# Altium schematic symbol library MyLibrary.SchLib: 320 symbols (part 2 of 7)
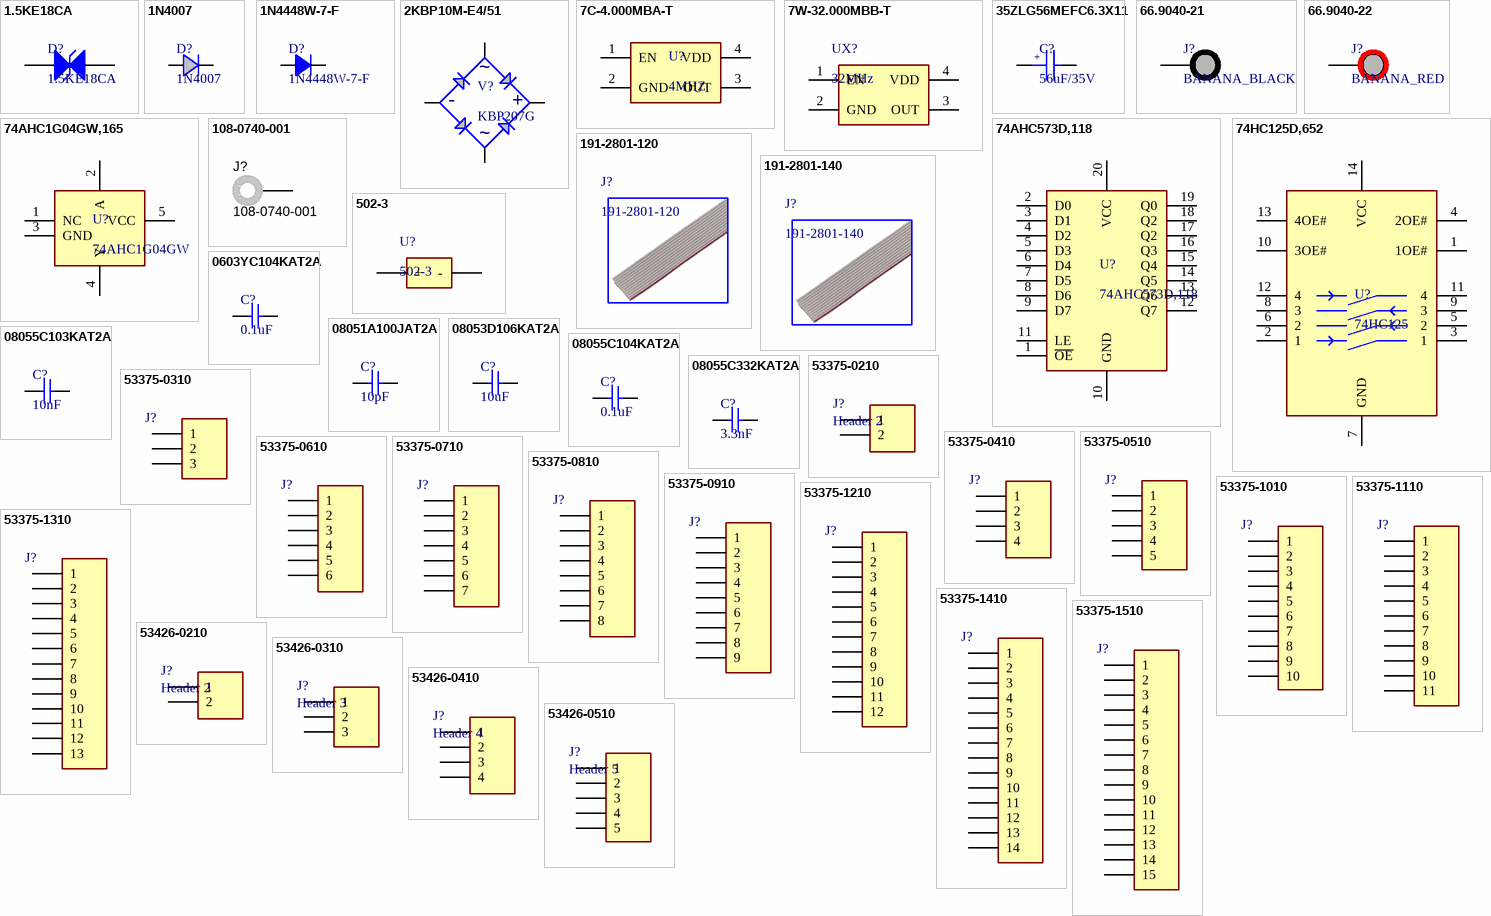
[diagram p9: symbols 1.5KE18CA to 53426-0510]

## 53426-0410
designator J?, comment Header 4
CONN HEADER RIGHT ANGLE 4POS 2.5MM; Manufacturer: Molex; Manufacturer Part Number: 53426-0410; Contact Resistance: 20mR; Number of Positions: 4; Voltage Rating: 250V; Current Rating: 3A; Glow Wire Compliant: Non-compliant; Connector Type: Male Pin; Supplier 1: Digi-Key; Supplier Part Number 1: WM3424-ND; Stock: 11360; Pricing: 1=0.43, 10=0.407, 100=0.3121, 500=0.2714, 1000=0.2239, 5000=0.1968, 10000=0.1832 (USD); Mount: Through Hole; Contact Plating: Tin; Contact Material: Bronze; Color: White; Housing Material: Polyester; Min Operating Temperature: -40°C; Max Operating Temperature: 105°C; Number of Rows: 1; Termination: Through Hole; Packaging: Tray; Orientation: Right Angle; Contact Gender: Male; Package Quantity: 1000; Number of Circuits: 4; Pitch: 2.5mm; ComponentLink1URL: http://www.molex.com/webdocs/datasheets/pdf/en-us/0534260410_PCB_HEADERS.pdf; ComponentLink1Description: Datasheet; Depth: 11.5mm; Fastening Type: Ramp; Housing Color: White; Lead Pitch: 2.5mm; Length: 12.4mm; Max Voltage Rating (AC): 250V; Type: THT
footprint 53426-0410
pins: 1, 2, 3, 4

## 53426-0510
designator J?, comment Header 5
CONN HEADER RIGHT ANGLE 5POS 2.5MM; Manufacturer: Molex; Manufacturer Part Number: 0534260510; Contact Resistance: 20mR; Number of Positions: 5; Connector Type: Male Pin; Current Rating: 3A; Glow Wire Compliant: Non-compliant; Max Voltage Rating (AC): 250V; Supplier 1: Digi-Key; Supplier Part Number 1: WM10107-ND; Stock: 8679; Pricing: 1=0.74, 10=0.693, 100=0.5314, 750=0.4159, 1500=0.3697, 5250=0.335, 10500=0.3119 (USD); Mount: Through Hole; Contact Plating: Tin; Contact Material: Bronze; Housing Material: Polybutylene; Color: White; Housing Color: White; Min Operating Temperature: -40°C; Max Operating Temperature: 105°C; Number of Rows: 1; Termination: Solder; Orientation: Right Angle; Packaging: Tray; Fastening Type: Ramp; Package Quantity: 750; Length: 14.9mm; Pitch: 2.5mm; Depth: 11.5mm; ComponentLink1URL: http://www.molex.com/webdocs/datasheets/pdf/en-us/0534260510_PCB_HEADERS.pdf; ComponentLink1Description: Datasheet; Contact Gender: Male; Lead Pitch: 2.5mm; Number of Circuits: 5; Voltage Rating: 250V; Type: THT
pins: 1, 2, 3, 4, 5

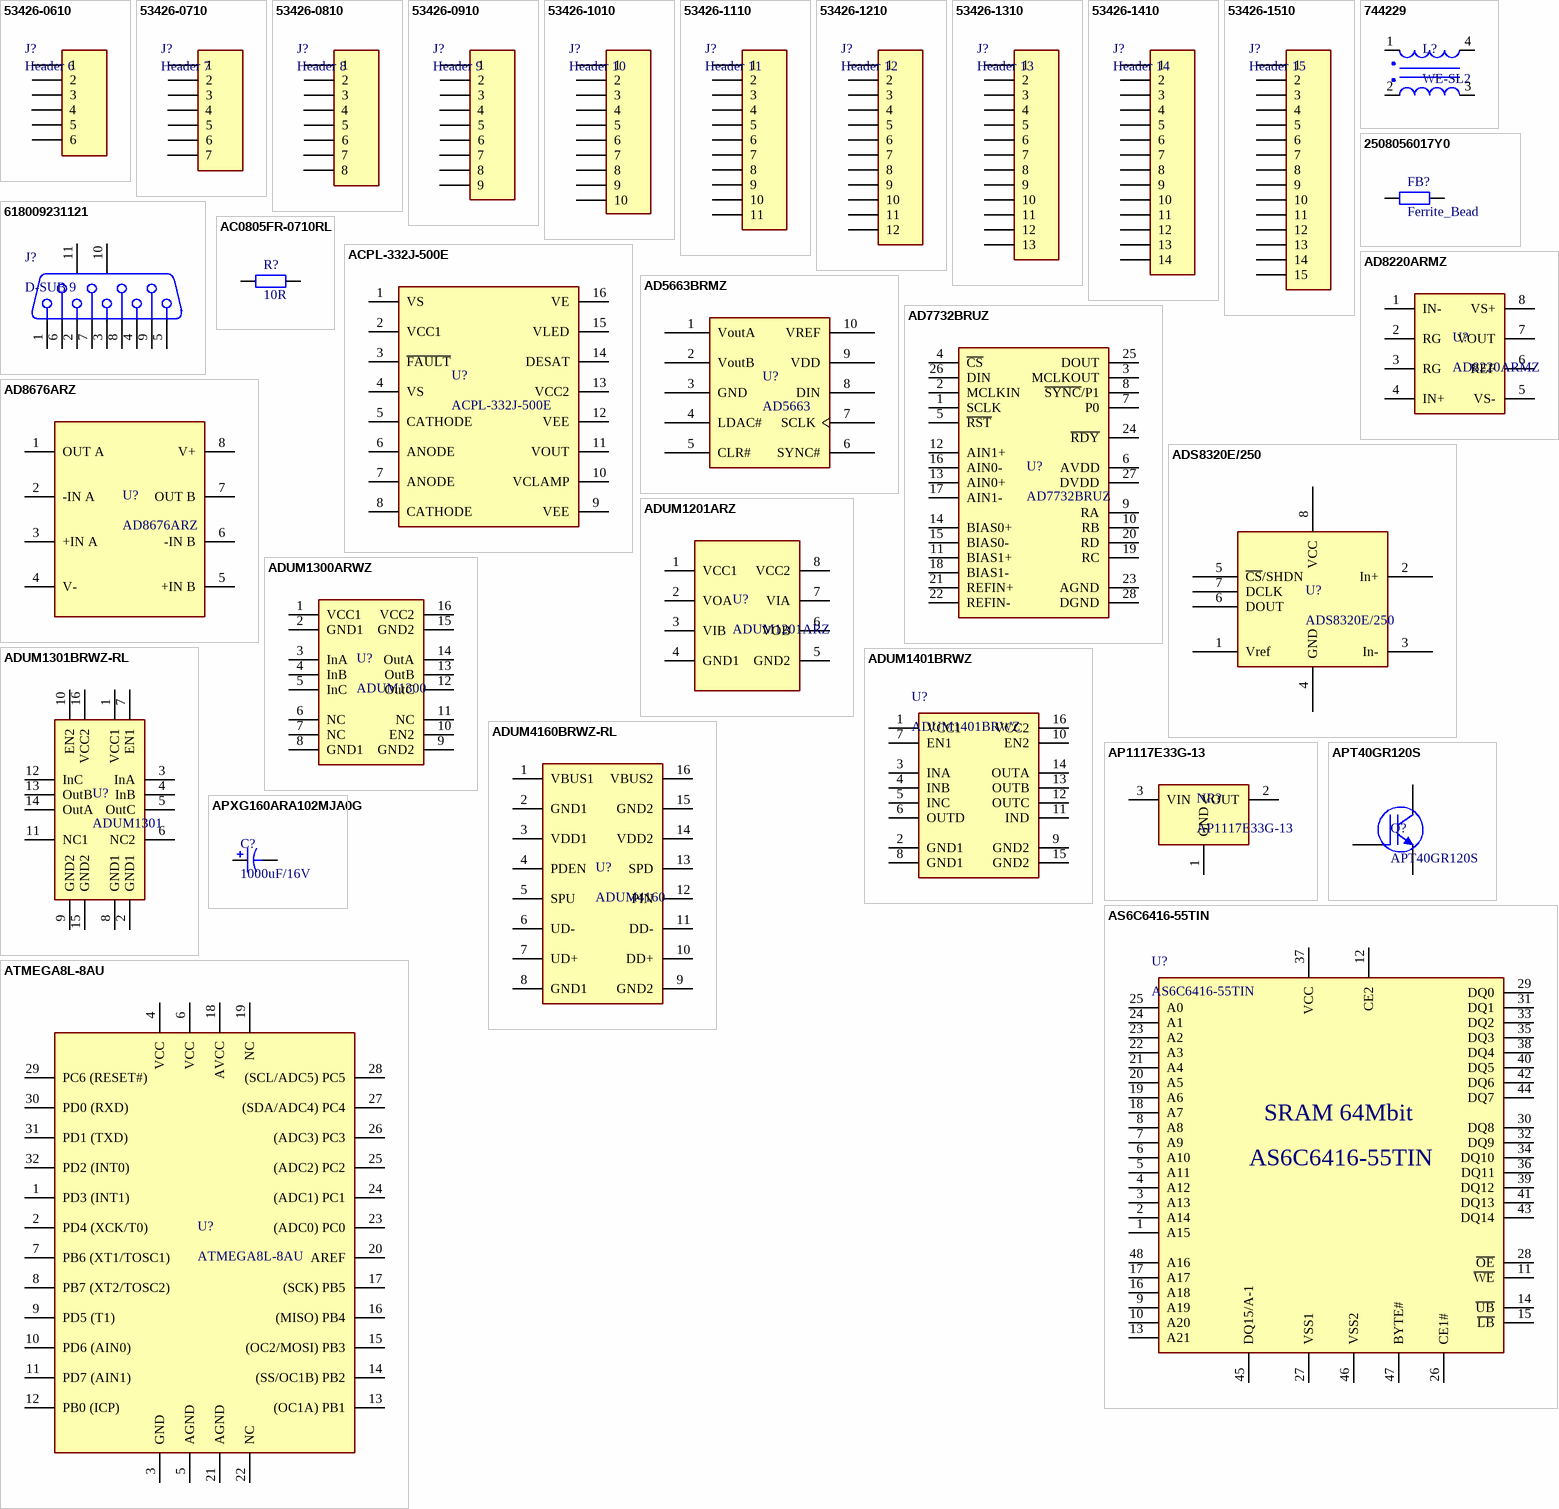
[diagram p1: symbols 53426-0610 to ATMEGA8L-8AU]

## 53426-0610
designator J?, comment Header 6
CONN HEADER RIGHT ANGLE 6POS 2.5MM; Manufacturer: Molex; Manufacturer Part Number: 53426-0610; Contact Resistance: 20mR; Number of Positions: 6; Voltage Rating: 250V; Current Rating: 3A; Glow Wire Compliant: Non-compliant; Connector Type: Male Pin; Supplier 1: Digi-Key; Supplier Part Number 1: WM3425-ND; Stock: 8959; Pricing: 1=0.73, 10=0.645, 100=0.5561, 750=0.4424, 1500=0.3792, 5250=0.3539, 10500=0.3362 (USD); Mount: Through Hole; Contact Material: Bronze; Contact Plating: Tin; Color: White; Housing Material: Polyester; Min Operating Temperature: -40°C; Max Operating Temperature: 105°C; Number of Rows: 1; Packaging: Tray; Termination: Through Hole; Orientation: Right Angle; Contact Gender: Male; Package Quantity: 750; Number of Circuits: 6; Pitch: 2.5mm; ComponentLink1URL: http://www.onlinecomponents.com/productFiles/mf-MOL/0534260610_pcb_headers.pdf; ComponentLink1Description: Datasheet; Depth: 11.5mm; Fastening Type: Ramp; Housing Color: White; Lead Pitch: 2.5mm; Length: 17.4mm; Max Voltage Rating (AC): 250V; Type: THT
footprint 53426-0610
pins: 1, 2, 3, 4, 5, 6

## 53426-0710
designator J?, comment Header 7
CONN HEADER RIGHT ANGLE 7POS 2.5MM; Manufacturer: Molex; Manufacturer Part Number: 53426-0710; Contact Resistance: 20mR; Current Rating: 3A; Number of Positions: 7; Voltage Rating: 250V; Glow Wire Compliant: Non-compliant; Connector Type: Male Pin; Supplier 1: Digi-Key; Supplier Part Number 1: WM14653-ND; Stock: 6996; Pricing: 1=0.56, 10=0.526, 100=0.4032, 500=0.3506, 1000=0.2893, 5000=0.2542, 10000=0.2367 (USD); Mount: Through Hole; Contact Plating: Tin; Contact Material: Bronze; Color: White; Housing Material: Polyester; Min Operating Temperature: -40°C; Max Operating Temperature: 105°C; Number of Rows: 1; Orientation: Right Angle; Package Quantity: 500; Packaging: Tray; Termination: Through Hole; Number of Circuits: 7; Pitch: 2.5mm; ComponentLink1URL: http://www.onlinecomponents.com/productFiles/mf-MOL/314410534260710_pcb_headers.pdf; ComponentLink1Description: Datasheet; Contact Gender: Male; Depth: 11.5mm; Fastening Type: Ramp; Housing Color: White; Lead Pitch: 2.5mm; Length: 19.9mm; Max Voltage Rating (AC): 250V; Type: THT
pins: 1, 2, 3, 4, 5, 6, 7

## 53426-0810
designator J?, comment Header 8
CONN HEADER RIGHT ANGLE 8POS 2.5MM; Manufacturer: Molex; Manufacturer Part Number: 53426-0810; Contact Resistance: 20mR; Number of Positions: 8; Current Rating: 3A; Voltage Rating: 250V; Glow Wire Compliant: Non-compliant; Connector Type: Male Pin; Supplier 1: Digi-Key; Supplier Part Number 1: WM10109-ND; Stock: 4658; Pricing: 1=0.67, 10=0.626, 100=0.4798, 500=0.4172, 1000=0.3442, 5000=0.3025, 10000=0.2816 (USD); Mount: Through Hole; Contact Plating: Tin; Contact Material: Bronze; Color: White; Housing Material: Polyester; Min Operating Temperature: -40°C; Max Operating Temperature: 105°C; Number of Rows: 1; Termination: Through Hole; Packaging: Tray; Orientation: Right Angle; Contact Gender: Male; Number of Circuits: 8; Pitch: 2.5mm; ComponentLink1URL: http://www.mouser.com/ds/2/276/0534260810_PCB_HEADERS-171072.pdf; ComponentLink1Description: Datasheet; Depth: 11.5mm; Fastening Type: Ramp; Housing Color: White; Lead Pitch: 2.5mm; Length: 22.4mm; Max Voltage Rating (AC): 250V; Type: THT
footprint 53426-0810
pins: 1, 2, 3, 4, 5, 6, 7, 8

## 53426-0910
designator J?, comment Header 9
CONN HEADER RIGHT ANGLE 9POS 2.5MM; Manufacturer: Molex; Manufacturer Part Number: 0534260910; Contact Resistance: 20mR; Number of Positions: 9; Connector Type: Male Pin; Current Rating: 3A; Glow Wire Compliant: Non-compliant; Max Voltage Rating (AC): 250V; Supplier 1: Digi-Key; Supplier Part Number 1: WM14654-ND; Stock: 3738; Pricing: 1=0.95, 10=0.831, 100=0.7173, 500=0.5869, 1000=0.5217, 5000=0.4565, 10000=0.4337 (USD); Mount: Through Hole; Contact Plating: Tin; Color: White; Contact Material: Bronze; Housing Material: Polybutylene; Housing Color: White; Min Operating Temperature: -40°C; Max Operating Temperature: 105°C; Number of Rows: 1; Package Quantity: 500; Packaging: Tray; Termination: Solder; Orientation: Right Angle; Fastening Type: Ramp; Length: 24.9mm; Pitch: 2.5mm; Depth: 11.5mm; ComponentLink1URL: http://www.molex.com/webdocs/datasheets/pdf/en-us/0534260910_PCB_HEADERS.pdf; ComponentLink1Description: Datasheet; Contact Gender: Male; Lead Pitch: 2.5mm; Number of Circuits: 9; Voltage Rating: 250V; Type: THT
pins: 1, 2, 3, 4, 5, 6, 7, 8, 9

## 53426-1010
designator J?, comment Header 10
CONN HEADER RIGHT ANGLE 10POS 2.5MM; Manufacturer: Molex; Manufacturer Part Number: 53426-1010; Contact Resistance: 20mR; Number of Positions: 10; Current Rating: 3A; Voltage Rating: 250V; Glow Wire Compliant: Non-compliant; Connector Type: Male Pin; Supplier 1: Digi-Key; Supplier Part Number 1: WM20351-ND; Stock: 3317; Pricing: 1=0.75, 10=0.657, 450=0.5154, 900=0.451, 1350=0.4123, 5400=0.3608, 10350=0.3427 (USD); Mount: Through Hole; Contact Plating: Tin; Contact Material: Bronze; Color: White; Housing Material: Polyester; Min Operating Temperature: -40°C; Max Operating Temperature: 105°C; Number of Rows: 1; Termination: Through Hole; Packaging: Tray; Orientation: Right Angle; Package Quantity: 450; Number of Circuits: 10; Pitch: 2.5mm; ComponentLink1URL: http://www.molex.com/webdocs/datasheets/pdf/en-us/0534261010_PCB_HEADERS.pdf; ComponentLink1Description: Datasheet; Contact Gender: Male; Depth: 11.5mm; Fastening Type: Ramp; Housing Color: White; Lead Pitch: 2.5mm; Length: 27.4mm; Max Voltage Rating (AC): 250V; Type: THT
footprint 53426-1010
pins: 1, 2, 3, 4, 5, 6, 7, 8, 9, 10

## 53426-1110
designator J?, comment Header 11
CONN HEADER RIGHT ANGLE 11POS 2.5MM; Manufacturer: Molex; Manufacturer Part Number: 0534261110; Contact Resistance: 20mR; Number of Positions: 11; Connector Type: Male Pin; Current Rating: 3A; Glow Wire Compliant: Non-compliant; Max Voltage Rating (AC): 250V; Supplier 1: Digi-Key; Supplier Part Number 1: 0534261110-ND; Stock: 0; Mount: Through Hole; Contact Plating: Tin; Contact Material: Bronze; Housing Material: Polybutylene; Color: White; Housing Color: White; Min Operating Temperature: -40°C; Max Operating Temperature: 105°C; Orientation: Right Angle; Number of Rows: 1; Packaging: Tray; Termination: Solder; Fastening Type: Ramp; Length: 29.9mm; Pitch: 2.5mm; Depth: 11.5mm; ComponentLink1URL: http://www.molex.com/webdocs/datasheets/pdf/en-us/0534261110_PCB_HEADERS.pdf; ComponentLink1Description: Datasheet; Contact Gender: Male; Lead Pitch: 2.5mm; Number of Circuits: 11; Voltage Rating: 250V; Type: THT
pins: 1, 2, 3, 4, 5, 6, 7, 8, 9, 10, 11

## 53426-1210
designator J?, comment Header 12
CONN HEADER RIGHT ANGLE 12POS 2.5MM; Manufacturer: Molex; Manufacturer Part Number: 0534261210; Contact Resistance: 20mR; Number of Positions: 12; Connector Type: Male Pin; Current Rating: 3A; Glow Wire Compliant: Non-compliant; Max Voltage Rating (AC): 250V; Supplier 1: Digi-Key; Supplier Part Number 1: WM14655-ND; Stock: 0; Mount: Through Hole; Contact Plating: Tin; Contact Material: Bronze; Housing Material: Polybutylene; Color: White; Housing Color: White; Min Operating Temperature: -40°C; Max Operating Temperature: 105°C; Number of Rows: 1; Termination: Solder; Packaging: Tray; Package Quantity: 400; Orientation: Right Angle; Fastening Type: Ramp; Length: 32.4mm; Pitch: 2.5mm; Depth: 11.5mm; ComponentLink1URL: http://www.molex.com/webdocs/datasheets/pdf/en-us/0534261210_PCB_HEADERS.pdf; ComponentLink1Description: Datasheet; Contact Gender: Male; Lead Pitch: 2.5mm; Number of Circuits: 12; Voltage Rating: 250V; Type: THT
pins: 1, 2, 3, 4, 5, 6, 7, 8, 9, 10, 11, 12

## 53426-1310
designator J?, comment Header 13
CONN HEADER RIGHT ANGLE 13POS 2.5MM; Manufacturer: Molex; Manufacturer Part Number: 0534261310; Contact Resistance: 20mR; Number of Positions: 13; Connector Type: Male Pin; Current Rating: 3A; Glow Wire Compliant: Non-compliant; Max Voltage Rating (AC): 250V; Supplier 1: Digi-Key; Supplier Part Number 1: 0534261310-ND; Stock: 0; Mount: Through Hole; Contact Plating: Tin; Contact Material: Bronze; Housing Material: Polybutylene; Color: White; Housing Color: White; Min Operating Temperature: -40°C; Max Operating Temperature: 105°C; Number of Rows: 1; Orientation: Right Angle; Packaging: Tray; Termination: Solder; Fastening Type: Ramp; Length: 34.9mm; Pitch: 2.5mm; Depth: 11.5mm; ComponentLink1URL: http://www.molex.com/webdocs/datasheets/pdf/en-us/0534261310_PCB_HEADERS.pdf; ComponentLink1Description: Datasheet; Contact Gender: Male; Lead Pitch: 2.5mm; Number of Circuits: 13; Voltage Rating: 250V; Type: THT
pins: 1, 2, 3, 4, 5, 6, 7, 8, 9, 10, 11, 12, 13

## 53426-1410
designator J?, comment Header 14
CONN HEADER RIGHT ANGLE 14POS 2.5MM; Manufacturer: Molex; Manufacturer Part Number: 0534261410; Contact Resistance: 20mR; Number of Positions: 14; Connector Type: Male Pin; Current Rating: 3A; Glow Wire Compliant: Non-compliant; Max Voltage Rating (AC): 250V; Supplier 1: Digi-Key; Supplier Part Number 1: WM14656-ND; Stock: 0; Mount: Through Hole; Contact Plating: Tin; Contact Material: Bronze; Housing Material: Polybutylene; Color: White; Housing Color: White; Min Operating Temperature: -40°C; Max Operating Temperature: 105°C; Number of Rows: 1; Termination: Solder; Packaging: Tray; Package Quantity: 350; Orientation: Right Angle; Fastening Type: Ramp; Length: 37.4mm; Pitch: 2.5mm; Depth: 11.5mm; ComponentLink1URL: http://www.molex.com/pdm_docs/sd/534261410_sd.pdf; ComponentLink1Description: Datasheet; Contact Gender: Male; Lead Pitch: 2.5mm; Number of Circuits: 14; Voltage Rating: 250V; Type: THT
pins: 1, 2, 3, 4, 5, 6, 7, 8, 9, 10, 11, 12, 13, 14

## 53426-1510
designator J?, comment Header 15
CONN HEADER RIGHT ANGLE 15POS 2.5MM; Manufacturer: Molex; Manufacturer Part Number: 0534261510; Contact Resistance: 20mR; Number of Positions: 15; Connector Type: Male Pin; Current Rating: 3A; Glow Wire Compliant: Non-compliant; Max Voltage Rating (AC): 250V; Supplier 1: Digi-Key; Supplier Part Number 1: 0534261510-ND; Stock: 0; Mount: Through Hole; Contact Plating: Tin; Contact Material: Bronze; Housing Material: Polybutylene; Color: White; Housing Color: White; Min Operating Temperature: -40°C; Max Operating Temperature: 105°C; Packaging: Tray; Number of Rows: 1; Termination: Solder; Orientation: Right Angle; Fastening Type: Ramp; Length: 39.9mm; Pitch: 2.5mm; Depth: 11.5mm; ComponentLink1URL: http://www.molex.com/pdm_docs/sd/534261510_sd.pdf; ComponentLink1Description: Datasheet; Contact Gender: Male; Lead Pitch: 2.5mm; Number of Circuits: 15; Voltage Rating: 250V; Type: THT
pins: 1, 2, 3, 4, 5, 6, 7, 8, 9, 10, 11, 12, 13, 14, 15

## 744229
designator L?, comment WE-SL2
COMMON MODE CHOKE DUAL 6.5mH 18.4kOhm 10kHz 400mA 950mOhm DCR SMD T/R; Manufacturer: Wurth Electronics; Manufacturer Part Number: 744229; Core Material: Ferrite; Resistance: 950mR; Test Frequency: 1kHz; Inductance Tolerance: 50%; Voltage Rating (DC): 80V; Impedance: 18.4kR; Max Current Rating: 700mA; Number of Lines: 2; Supplier 1: Mouser; Stock 1: 2850; Pricing 1: 1=2.46000, 10=2.43000, 25=2.43000, 50=2.19000, 100=2.11000, 250=2.11000, 500=1.96000, 1000=1.80000, 2000=1.51000 (USD); RoHS: Yes; Mount: Surface Mount; Number of Pins: 4; Weight: 0.017672oz; Min Operating Temperature: -40°C; Max Operating Temperature: 125°C; Current: 400mA; DC Resistance (DCR): 950mR; Current Rating: 400mA; Max DC Current: 400mA; Termination: SMD/SMT; Voltage Rating: 80V; Inductance: 6.5mH; Tolerance: 50%; Package Quantity: 1; Packaging: Tape and Reel; Length: 9.2mm; Height: 5mm; Width: 6mm; Depth: 6mm; REACH SVHC: No SVHC; Lead Free: Lead Free; ComponentLink1URL: https://datasheet.ciiva.com/7691/1735594-7691573.pdf?src-supplier=Element14; ComponentLink1Description: Datasheet; Supplier Part Number 1: 710-744229; Type: SMD; Package: *
footprint LINE_FILTER_WE-SL2
pins: 1, 2, 3, 4

## 2508056017Y0
designator FB?, comment Ferrite_Bead
FERRITE 300mA 0805 0.35R; Manufacturer: FAIR-RITE; Manufacturer Part Number: 2508056017Y0; Type: SMD; .PCBChecked: BP; Supplier 1: Farnell; RoHS: YES; Stock 1: 44162; Pricing 1: 10=0.0967, 100=0.028, 500=0.02, 1000=0.0171, 2000=0.015, 4000=0.0133, 20000=0.01, 40000=0.0098 (GBP); ComponentLink1URL: http://www.farnell.com/datasheets/2020787.pdf; ComponentLink1Description: Datasheet; Supplier Part Number 1: 1651722; Category: Ferrites; Package: FBC2012X110N; .SCHChecked: BP; DCR: 0.35R
footprint FB0805
pins: 1, 2

## 618009231121
designator J?, comment D-SUB 9
D-Sub 9 FEMALE; Manufacturer: Wurth Electronics; Manufacturer Part Number: 618009231121; Current Rating: 3A; Voltage Rating: 125V; Number of Contacts: 9; Pitch: 2.84mm; Supplier 1: Mouser; Stock 1: 130; Pricing 1: 1=2.68, 10=2.54, 50=2.54, 100=2.25, 1000=1.5, 10000=1.5 (USD); Mount: Through Hole; Contact Material: Copper Alloy; Contact Plating: Gold; Housing Material: Steel; Min Operating Temperature: -40°C; Max Operating Temperature: 85°C; Number of Rows: 2; Gender: Female; Termination: SMD/SMT; Orientation: Right Angle; Length: 30.8mm; Width: 12.5mm; Depth: 18.5mm; REACH SVHC: Unknown; ComponentLink1URL: https://datasheet.ciiva.com/12669/6180xx231121-12669218.pdf; ComponentLink1Description: Datasheet; Supplier Part Number 1: 710-618009231121; Package: D-SUB 9; Type: THT
footprint DSUB1.385-2H9 (Connector; D Subminiature; 9 Position; Right Angle; Pitch 1.385 mm)
pins: 1, 2, 3, 4, 5, 6, 7, 8, 9, 10 MH1, 11 MH2

## AC0805FR-0710RL
designator R?, comment 10R
RES 10R 0805 0.125W; Manufacturer: Yageo; Manufacturer Part Number: AC0805FR-0710RL; Power Rating(s): 1/8W; Resistance: 10Ohm; Tolerance (+ or -): 1%; Temperature Coefficient: ±200; Case Style: Molded; Product Length (mm): 2mm; Product Depth (mm): 1.25mm; Product Height (mm): 0.5mm; Supplier 1: Avnet Abacus; Stock 1: 40093; Pricing 1: 1=0.1, 10=0.043, 100=0.0175, 1000=0.0079, 2500=0.0068 (USD); Type: SMD; Package: RESC2012X60N; Packaging: Tape and Reel; Operating Temp Range: -55C to 155C; Military Standard: Not Required; Failure Rate: Not Required; Construction: Rectangular; Termination Style: Not Required; ComponentLink1URL: http://www.mouser.com/ds/2/447/yageodocoutput-1111992.pdf; ComponentLink1Description: Datasheet; Supplier Part Number 1: AC0805FR-0710RL
footprint R0805
footprint RESC2012X05N (Chip Resistor, 2-Leads, Body 2.05x1.25mm, IPC Medium Density)
pins: 1, 2

## ACPL-332J-500E
designator U?
OPTOCOUPLER 1.2V SOIC16 2.5A; Manufacturer: Broadcom Avago; Brand: Avago Technologies; Isolation Voltage: 3750 Vrms; Maximum Forward Diode Voltage: 1.95 V; Maximum Reverse Diode Voltage: 5 V; Maximum Power Dissipation: 600 mW; Fall Time: 50 ns; Number of Channels per Chip: 2 Channels; Supplier 1: Mouser; Manufacturer Part Number: ACPL-332J-500E; Stock 1: 1167; Pricing 1: 1=6.22, 10=4.67, 50=4.67, 100=3.89, 1000=2.96, 10000=2.84 (USD); Product Category: Logic Output Optocouplers; RoHS: Details; Maximum Operating Temperature: + 105 C; Minimum Operating Temperature: - 40 C; Package: SOIC127P1032X265-16N; Packaging: Reel; Minimum Forward Diode Voltage: 1.2 V; Rise Time: 50 ns; Factory Pack Quantity: 850; ComponentLink1URL: https://datasheet.ciiva.com/4701/av02-0120en-190102-4701161.pdf; ComponentLink1Description: Datasheet; Supplier Part Number 1: 630-ACPL-332J-500E; Type: SMD
footprint SOIC16W (SOIC, 16-Leads, Body 10,30x7,50mm, Pitch 1,27mm, IPC Medium Density)
pins: 1 VS, 2 VCC1, 3 ~{FAULT}, 4 VS, 5 CATHODE, 6 ANODE, 7 ANODE, 8 CATHODE, 9 VEE, 10 VCLAMP, 11 VOUT, 12 VEE, 13 VCC2, 14 DESAT, 15 VLED, 16 VE

## AD5663BRMZ
designator U?, comment AD5663
DAC 16BIT MSOP10; Manufacturer: Analog Devices; Manufacturer Part Number: AD5663BRMZ; No. of Pins: 10; Input Channel Type: Serial; Data Interface: 3 Wire, Serial; Sampling Rate: 200kSPS; Supply Voltage Range: 2.7V to 5.5V; SVHC: No SVHC (16-Jun-2014); Supplier 1: Farnell; Stock 1: 21; Pricing 1: 1=8.42, 10=6.76, 25=6.32, 50=5.89, 100=5.57, 250=5.2, 500=4.69, 1000=4.17 (EUR); Resolution (Bits): 16bit; Package: SOP50P500X110-10N; Operating Temperature Min: -40°C; Operating Temperature Max: 105°C; Packaging: Each; MSL: MSL 1 - Unlimited; ComponentLink1URL: https://datasheet.ciiva.com/4034/42741164s9191829n2771-4034583.pdf; ComponentLink1Description: Datasheet; Supplier Part Number 1: 1274263; Type: SMD
footprint MSOP10 (TSSOP, 10-Leads, Body 3.00x3.00mm, Pitch 0.50mm, IPC Medium Density)
pins: 1 VoutA, 2 VoutB, 3 GND, 4 LDAC#, 5 CLR#, 6 SYNC#, 7 SCLK, 8 DIN, 9 VDD, 10 VREF

## AD7732BRUZ
designator U?
AD 24 bit 15.4 kSPS TSSOP28; Manufacturer: Analog Devices; Sampling Rate: 3.05MS/s; Number of A/D Converters: 1; Resolution: 24b; Polarity: Bipolar,Unipolar; Number of Analog Inputs: 2; Number of Bits: 24; Interface: SPI; Operating Supply Voltage: 5V; Power Dissipation: 100mW; Supply Type: Analog,Digital; Max Supply Voltage: 5.25V; Min Supply Voltage: 4.75V; Power Consumption: 85mW; Max Input Voltage: 2.525V; Min Input Voltage: 2.475V; Supplier 1: Mouser; Manufacturer Part Number: AD7732BRUZ; Stock 1: 283; Pricing 1: 1=19.04000, 10=17.28000, 25=16.24000, 50=15.64000, 100=14.06000, 250=12.99000, 500=12.21000, 1000=11.11000 (USD); RoHS: Yes; Case/Package: TSSOP; Number of Pins: 28; Contact Plating: Tin,Matte; Min Operating Temperature: -40°C; Max Operating Temperature: 105°C; Packaging: Rail/Tube; Package Quantity: 50; Number of Inputs: 2; Number of Converters: 1; Number of Elements: 1; Number of Channels: 2; Max Power Dissipation: 100mW; Length: 9.7mm; Height: 1.05mm; Width: 4.4mm; Radiation Hardening: No; Lead Free: Contains Lead; REACH SVHC: No SVHC; ComponentLink1URL: https://datasheet.ciiva.com/1152/ad7732-1152529.pdf?src-supplier=Newark; ComponentLink1Description: Datasheet; Supplier Part Number 1: 584-AD7732BRUZ; Type: SMD; Package: SOP65P640X120-28N
footprint TSSOP28 (TSOP, 28-Leads, Body 9.70x4.40mm, Pitch 0.65mm, IPC Medium Density)
pins: 1 SCLK, 2 MCLKIN, 3 MCLKOUT, 4 ~{CS}, 5 ~{RST}, 6 AVDD, 7 P0, 8 ~{SYNC}/P1, 9 RA, 10 RB, 11 BIAS1+, 12 AIN1+, 13 AIN0+, 14 BIAS0+, 15 BIAS0-, 16 AIN0-, 17 AIN1-, 18 BIAS1-, 19 RC, 20 RD, 21 REFIN+, 22 REFIN-, 23 AGND, 24 ~{RDY}, 25 DOUT, 26 DIN, 27 DVDD, 28 DGND

## AD8220ARMZ
designator U?
AMPLIFIER INSTRUMENTATION MSOP8; Manufacturer: Analog Devices; Input Bias Current: 25pA; Input Offset Voltage (Vos): 125uV; Voltage Gain: 60dB; Number of Circuits: 1; Operating Supply Current: 750uA; Output Current per Channel: 15mA; Common Mode Rejection Ratio: 100dB; Gain Bandwidth Product: 1.5MHz; Min Supply Voltage: 4.5V; Max Supply Voltage: 36V; Operating Supply Voltage: 28V; Min Dual Supply Voltage: 2.25V; Max Dual Supply Voltage: 18V; Dual Supply Voltage: 9V; Slew Rate: 2V/µs; Supplier 1: Digi-Key; Manufacturer Part Number: AD8220ARMZ; Stock 1: 787; Pricing 1: 1=6.43000, 10=5.80500, 25=5.53520, 100=4.59000, 250=4.18500, 500=3.91500, 1000=3.51000 (USD); RoHS: Yes; Case/Package: MSOP; Number of Pins: 8; Contact Plating: Tin,Matte; Min Operating Temperature: -40°C; Max Operating Temperature: 85°C; Packaging: Rail/Tube; Number of Elements: 1; Number of Amplifiers: 1; Bandwidth: 1.5MHz; Package Quantity: 50; Number of Channels: 1; -3db Bandwidth: 1.5MHz; Length: 3mm; Height: 0.85mm; Width: 3mm; Radiation Hardening: No; Lead Free: Contains Lead; REACH SVHC: No SVHC; ComponentLink1URL: https://datasheet.ciiva.com/1135/716986-1135107.pdf?src-supplier=Element14; ComponentLink1Description: Datasheet; Supplier Part Number 1: AD8220ARMZ-ND; Type: SMD; Package: SOP65P510X110-8N
footprint MSOP8
pins: 1 IN-, 2 RG, 3 RG, 4 IN+, 5 VS-, 6 REF, 7 VOUT, 8 VS+

## AD8676ARZ
designator U?
OP AMP SOIC8; Manufacturer: Analog Devices; Bandwidth: 10MHz; Max Supply Voltage: 18V; Min Supply Voltage: 5V; Voltage Gain: 126dB; Common Mode Rejection Ratio: 130dB; Max Dual Supply Voltage: 15V; Dual Supply Voltage: 9V; Slew Rate: 2.5V/µs; Number of Channels: 2; Output Current per Channel: 20mA; Input Bias Current: 2.4nA; Input Offset Voltage (Vos): 50uV; Input Voltage Noise Density: 2.8nV/sqrt Hz; Power Supply Rejection Ratio (PSRR): 120dB; Operating Supply Current: 5.4mA; Quiescent Current: 2.7mA; Supplier 1: RS Components; Manufacturer Part Number: AD8676ARZ; Stock 1: 98; Pricing 1: 98=2.797, 490=2.517, 980=2.294 (EUR); Package: SOIC127P600X175-8N; Number of Pins: 8; Contact Plating: Tin,Matte; Min Operating Temperature: -40°C; Max Operating Temperature: 125°C; Packaging: Rail/Tube; Unity Gain Bandwidth Product: 10MHz; Package Quantity: 98; Min Dual Supply Voltage: 5V; Number of Circuits: 2; Gain Bandwidth Product: 10MHz; Number of Amplifiers: 2; Number of Elements: 2; Length: 5mm; Height: 1.5mm; Width: 4mm; REACH SVHC: No SVHC; Lead Free: Contains Lead; ComponentLink1URL: https://datasheet.ciiva.com/26849/ad8676arz-26849632.pdf; ComponentLink1Description: Datasheet; Supplier Part Number 1: 9128019; Type: SMD
footprint SOIC8 (SOIC, 8-Leads, Body 4,90x3,90mm, Pitch 1,27mm, IPC Medium Density)
pins: 1 OUT A, 2 -IN A, 3 +IN A, 4 V-, 5 +IN B, 6 -IN B, 7 OUT B, 8 V+

## ADS8320E/250
designator U?
AD 16BIT MSOP8 SPI; Manufacturer: Texas Instruments; Number of Channels: 1; Max Supply Voltage: 5.25V; Min Supply Voltage: 2V; Max Power Dissipation: 8.5mW; Interface: SPI,Serial; Number of Bits: 16; Sampling Rate: 100KS/s; Resolution: 16b; Polarity: Unipolar; Signal to Noise Ratio (SNR): 90dB; Power Dissipation: 4.5mW; Differential Nonlinearity: 2LSB; Min Supply Voltage (DC): 2.7V; Integral Nonlinearity (INL): 8LSB; Spurious-free dynamic range (SFDR): 84dB; Nominal Supply Current: 900uA; Power Consumption: 18mW; Supply Type: Single; Supplier 1: EBV Elektronik; Manufacturer Part Number: ADS8320E/250; Stock 1: 392; Pricing 1: 1=12.59, 10=11.574, 100=9.7746 (USD); Package: SOP65P510X110-8N; Number of Pins: 8; Contact Plating: Gold; Min Operating Temperature: -40°C; Max Operating Temperature: 85°C; Packaging: Tape and Reel; Package Quantity: 250; Number of Inputs: 1; Number of A/D Converters: 1; Number of Converters: 1; Number of Analog Inputs: 1; Number of Elements: 1; Conversion Rate: 100KS/s; Max Supply Voltage (DC): 5.25V; Termination: SMD/SMT; Length: 3.1mm; Height: 0.95mm; Width: 3.1mm; Radiation Hardening: No; REACH SVHC: No SVHC; Lead Free: Lead Free; ComponentLink1URL: https://datasheet.ciiva.com/22696/1789154-22696423.pdf; ComponentLink1Description: Datasheet; Supplier Part Number 1: ADS8320E/250; Type: SMD
footprint MSOP8
pins: 1 Vref, 2 In+, 3 In-, 4 GND, 5 ~{CS}/SHDN, 6 DOUT, 7 DCLK, 8 VCC

## ADUM1201ARZ
designator U?
ISOLATOR 2.5kV SOIC8; Manufacturer: Analog Devices; Max Supply Voltage: 5.5V; Min Supply Voltage: 2.7V; Propagation Delay: 150ns; Number of Channels: 2; Data Rate: 25Mbps; Channel Type: Unidirectional; Polarity: Bidirectional; Turn-On Delay Time: 45ns; Operating Supply Current: 600uA; Output Current: 35mA; Isolated Power: No; Pulse Width Distortion (PWD): 40ns; Operating Supply Voltage: 3V; Rise Time: 3ns; Max Input Current: 10uA; Supplier 1: RSComponents; Manufacturer Part Number: ADUM1201ARZ; RoHS: Yes; Stock 1: 1945; Case/Package: R; Number of Pins: 8; Weight: 0.019048oz; Number of Terminals: 8; Contact Plating: Matte,Tin; Min Operating Temperature: -40°C; Max Operating Temperature: 125°C; Packaging: Rail/Tube; Type: SMD; Isolation Voltage: 2.5kV; Length: 5mm; Width: 4mm; Depth: 1.5mm; Radiation Hardening: No; Lead Free: Contains Lead; REACH SVHC: No SVHC; ComponentLink2URL: http://www.farnell.com/datasheets/2149293.pdf; ComponentLink2Description: Datasheet; Supplier Part Number 1: 496-7519P; Package: SOIC127P600X175-8N
footprint SOIC8 (SOIC, 8-Leads, Body 4,90x3,90mm, Pitch 1,27mm, IPC Medium Density)
pins: 1 VCC1, 2 VOA, 3 VIB, 4 GND1, 5 GND2, 6 VOB, 7 VIA, 8 VCC2

## ADUM1300ARWZ
designator U?, comment ADUM1300
ISOLATOR 2.5kV SOIC16; Manufacturer: Analog Devices; Manufacturer Part Number: ADUM1300ARWZ; Number of Channels: 3; Propagation Delay: 100ns; Min Supply Voltage: 2.7V; Max Supply Voltage: 5.5V; Nominal Supply Current: 8.2mA; Rise Time: 3ns; Data Rate: 90Mbps; Channel Type: Unidirectional; Turn-On Delay Time: 32ns; Max Input Current: 10uA; Output Current: 30mA; Isolated Power: No; Pulse Width Distortion (PWD): 40ns; Operating Supply Voltage: 5V; Supplier 1: RSComponents; Stock 1: 0; Case/Package: SOIC; Number of Pins: 16; Min Operating Temperature: -40°C; Max Operating Temperature: 125°C; Package Quantity: 47; Packaging: Rail/Tube; Operating Supply Current: 8.2mA; Isolation Voltage: 2.5kV; Type: SMD; Length: 10.5mm; Width: 7.6mm; Depth: 2.35mm; Radiation Hardening: No; REACH SVHC: No SVHC; Lead Free: Contains Lead; ComponentLink1URL: https://datasheet.ciiva.com/15134/getdatasheetpartid-91279-15134182.pdf; ComponentLink1Description: Datasheet; Supplier Part Number 1: 1067026; Package: SOIC127P1032X265-16N
footprint SOIC16W (SOIC, 16-Leads, Body 10,30x7,50mm, Pitch 1,27mm, IPC Medium Density)
pins: 1 VCC1, 2 GND1, 3 InA, 4 InB, 5 InC, 6 NC, 7 NC, 8 GND1, 9 GND2, 10 EN2, 11 NC, 12 OutC, 13 OutB, 14 OutA, 15 GND2, 16 VCC2

## ADUM1301BRWZ-RL
designator U?, comment ADUM1301
ISOLATOR 2.5KV SOIC16; Manufacturer: Analog Devices Inc.; Manufacturer Part Number: ADUM1301BRWZ; Isolated Power: No; Number of Channels: 3; Inputs - Side 1/Side 2: 2/1; Channel Type: Unidirectional; Voltage - Isolation: 2500Vrms; Common Mode Transient Immunity (Min): 25kV/µs; Data Rate: 10Mbps; Propagation Delay tpLH / tpHL (Max): 50ns, 50ns; Pulse Width Distortion (Max): 3ns; Rise / Fall Time (Typ): 2.5ns, 2.5ns; Voltage - Supply: 2.7 V ~ 5.5 V; .PCBChecked: BP; RoHS: RoHS Compliant; Category: Isolators; Packaging: Cut Tape (CT); Part Status: Active; Technology: Magnetic Coupling; Type: SMD; Operating Temperature: -40°C ~ 105°C; Package: SOIC127P1032X265-16N; Supplier Device Package: 16-SOIC; ComponentLink1URL: http://www.analog.com/media/en/technical-documentation/data-sheets/ADuM1300_1301.pdf; ComponentLink1Description: Datasheet; .SCHChecked: BP; Supplier 1: RSComponents; Supplier Part Number 1: 759-1929P
footprint SOIC16W (SOIC, 16-Leads, Body 10,30x7,50mm, Pitch 1,27mm, IPC Medium Density)
pins: 1 VCC1, 2 GND1, 3 InA, 4 InB, 5 OutC, 6 NC2, 7 EN1, 8 GND1, 9 GND2, 10 EN2, 11 NC1, 12 InC, 13 OutB, 14 OutA, 15 GND2, 16 VCC2
1 alternate drawing of the same symbol

## ADUM1401BRWZ
designator U?
ISOLATOR 2.5KV SOIC16; Manufacturer: Analog Devices; Manufacturer Part Number: ADUM1401BRWZ-RL; Number of Channels: 4; Propagation Delay: 50ns; Min Supply Voltage: 2.7V; Max Supply Voltage: 5.5V; Nominal Supply Current: 11mA; Data Rate: 90Mbps; Number of Input Lines: 3; Channel Type: Unidirectional; Output Current: 22mA; Isolated Power: No; Pulse Width Distortion (PWD): 3ns; Operating Supply Voltage: 5V; Supplier 1: Sangus; RoHS: Yes; Stock 1: 5102; Pricing 1: 1 = 6.29000, 10 = 5.64500, 100 = 4.62520, 500 = 3.93732 (USD); Case/Package: SOIC; Number of Pins: 16; Min Operating Temperature: -40°C; Max Operating Temperature: 125°C; Packaging: Tape and Reel; Package Quantity: 1000; Operating Supply Current: 11mA; Type: SMD; Radiation Hardening: No; Lead Free: Contains Lead; ComponentLink1URL: https://datasheet.ciiva.com/26911/adum1401brwz-rl-26911364.pdf?src-supplier=IIIC; ComponentLink1Description: Datasheet; Supplier Part Number 1: ADUM1401BRWZ-RL; Package: SOIC127P1032X265-16N
footprint SOIC16W (SOIC, 16-Leads, Body 10,30x7,50mm, Pitch 1,27mm, IPC Medium Density)
pins: 1 VCC1, 2 GND1, 3 INA, 4 INB, 5 INC, 6 OUTD, 7 EN1, 8 GND1, 9 GND2, 10 EN2, 11 IND, 12 OUTC, 13 OUTB, 14 OUTA, 15 GND2, 16 VCC2

## ADUM4160BRWZ-RL
designator U?, comment ADUM4160
ISOLATOR 5KV SOIC16; Manufacturer: Analog Devices Inc.; Manufacturer Part Number: ADUM4160BRWZ; Isolated Power: No; Number of Channels: 2; Inputs - Side 1/Side 2: 2/2; Channel Type: Bidirectional; Voltage - Isolation: 5000Vrms; Common Mode Transient Immunity (Min): 25kV/µs; Data Rate: 12Mbps; Propagation Delay tpLH / tpHL (Max): 70ns, 70ns; Rise / Fall Time (Typ): 20ns, 20ns (Max); Voltage - Supply: 3.1 V ~ 5.5 V; .PCBChecked: BP; PCN Design/Specification: Copper Wire 08/Jun/2009; PCN Assembly/Origin: SOD-123 Package Assembly Site Transfer 29/Aug/2014; Voltage - Zener (Nom) (Vz): 18V; Tolerance: ±5%; Power - Max: 500mW; Impedance (Max) (Zzt): 45 Ohm; Current - Reverse Leakage @ Vr: 50nA @ 12.6V; Voltage - Forward (Vf) (Max) @ If: 900mV @ 10mA; Online Catalog: MMSZ Series; Other Names: MMSZ18T1GOSDKR; Supplier 1: Sangus; RoHS: RoHS Compliant; Category: Isolators; Stock 1: 3860; Pricing 1: 1=11.64, 10=10.7, 100=9.0367, 500=8.0388 (USD); Packaging: Cut Tape (CT); Part Status: Active; Technology: Magnetic Coupling; Type: SMD; Pulse Width Distortion (Max): -; Operating Temperature: -40°C ~ 105°C; Package: SOIC127P1032X265-16N; Supplier Device Package: 16-SOIC; ComponentLink1URL: http://www.analog.com/media/en/technical-documentation/data-sheets/ADuM4160.pdf; ComponentLink1Description: Datasheet; Supplier Part Number 1: ADUM4160BRWZ; .SCHChecked: BP; Supplier 2: Mouser; Stock 2: 0; Pricing 2: 1=0.23, 10=0.156, 50=0.156, 100=0.065, 1000=0.045, 10000=0.03 (USD); Standard Package: 1; Family: Diodes - Zener - Single; Mounting Type: Surface Mount; Supplier Part Number 2: 863-MMSZ18T1G
footprint SOIC16W (SOIC, 16-Leads, Body 10,30x7,50mm, Pitch 1,27mm, IPC Medium Density)
pins: 1 VBUS1, 2 GND1, 3 VDD1, 4 PDEN, 5 SPU, 6 UD-, 7 UD+, 8 GND1, 9 GND2, 10 DD+, 11 DD-, 12 PIN, 13 SPD, 14 VDD2, 15 GND2, 16 VBUS2

## AP1117E33G-13
designator NR?
LDO 3V3 SOT223; Manufacturer: DIODES INC.; Output Type: Fixed; Input Voltage Min: 4.8; Input Voltage Max: 18; Fixed Output Voltage Nom.: 3.3; Output Current: 1; Dropout Voltage Vdo: 1.3; LDO Regulator Case Style: SOT-223; No. of Pins: 3; Product Range: 3.3V 1; SVHC: No SVHC (17-Dec-2015); Base Number: 1117; Primary Input Voltage: 18V<!--FANDB--><div class="features-and-benefits-container"><div class="features-and-benefits-desc-container"><span class="features-and-benefits-container-desc">3.3V, 1A Low Dropout Voltage Regulator in SOT-223-3 Package</span></div><div class="features-and-benefits-description"><span class="features-benefits-value">The AP1117E33G-13 is a low dropout positive fixed-mode regulator with 1; .PCBChecked: BP; Supplier 1: RS Components; Manufacturer Part Number: AP1117E33G-13; RoHS: YES; Stock 1: 16374; Pricing 1: 1=0.407, 10=0.22, 100=0.147, 250=0.133, 500=0.09, 2000=0.086, 5000=0.083, 20000=0.08 (GBP); Adjustable Output Voltage Min: -; Adjustable Output Voltage Max: -; Operating Temperature Min: 0; Operating Temperature Max: 125; Packaging: Cut Tape; Automotive Qualification Standard: -; MSL: -; Operating Temperature Range: 0°C to +125; Output Voltage: 3.3; Output Voltage Nom.: 3.3; ComponentLink1URL: http://www.farnell.com/datasheets/2100276.pdf; ComponentLink1Description: Datasheet; Supplier Part Number 1: 751-2890P; Category: LDO; Package: SOT230P700X180-4N; Type: SMD; .SCHChecked: BP
footprint SOT223 (SOT223, 4-Leads, Body 6,50x7,00mm (avg), Pitch 2,30mm, IPC Medium Density)
pins: 1 GND, 2 VOUT, 3 VIN, 4 NC hidden

## APT40GR120S
designator Q?
IGBT 1200V D3PAK 88A 500W; Manufacturer: Microsemi Power Products; IGBT Type: NPT; Current - Collector Pulsed (Icm): 160A; Vce(on) (Max) @ Vge, Ic: 3.2V @ 15V, 40A; Switching Energy: 1.38mJ (on), 906µJ (off); Input Type: Standard; Gate Charge: 210nC; Td (on/off) @ 25°C: 22ns/163ns; Test Condition: 600V, 40A, 4.3 Ohm, 15V; Online Catalog: Standard IGBTs; Type: SMD; Supplier 1: Digi-Key; Manufacturer Part Number: APT40GR120S; Stock 1: 10; Pricing 1: 1=10.84, 10=9.759, 25=8.892, 100=8.0245, 250=7.3738, 500=6.7232 (USD); Standard Package: 31; Category: Discrete Semiconductor Products; Family: IGBTs - Single; Packaging: Tube; Voltage - Collector Emitter Breakdown (Max): 1200V; Current - Collector (Ic) (Max): 88A; Power - Max: 500W; Package: D3-PAK; Mounting Type: Surface Mount; Supplier Device Package: D3Pak; ComponentLink1URL: http://www.mouser.com/ds/2/523/APT40GR120B_S_A-600793.pdf; ComponentLink1Description: Datasheet; Supplier Part Number 1: APT40GR120S-ND
footprint DPAK3 (D3-PAK, 3-Pads, Body 10.10x11.39mm (max), IPC Medium Density)
footprint TO-268 (D3-PAK, 3-Pads, Body 10.10x11.39mm (max), IPC Medium Density)
pins: C, E, G

## APXG160ARA102MJA0G
designator C?, comment 1000uF/16V
CAP 1000UF ALUM POLY  20% 16V SMD; Manufacturer: United Chemi-Con; Manufacturer Part Number: APXG160ARA102MJA0G; Capacitance: 1mF; ESR (Equivalent Series Resistance): 18mR; Polarity: Polar; Ripple Current: 4.1A; Life (Hours): 15000Hour; Supplier 1: Mouser; RoHS: Yes; Stock 1: 2453; Pricing 1: 1 = 1.30000, 10 = 1.03000, 50 = 1.03000, 100 = 0.68600, 1000 = 0.51400, 10000 = 0.43700 (USD); Mount: Surface Mount; Case/Package: Radial; Min Operating Temperature: -55°C; Max Operating Temperature: 105°C; Package Quantity: 500; Packaging: Tape and Reel; Voltage Rating: 16V; Tolerance: 20%; Height - Seated (Max): 0.406inch; ComponentLink1URL: http://www.chemi-con.co.jp/cgi-bin/CAT_DB/SEARCH/cat_db_al.cgi?e=e&j=p&pdfname=pxg&src-supplier=Digi-Key; ComponentLink1Description: Datasheet; Supplier Part Number 1: 661-APXG160A102MJA0G; Type: SMD; Package: CAPAE1030X1050
footprint CAPAE110103X105N (Aluminum Electrolytic Capacitor, Body 10.30x10.30x10.50mm, IPC Medium Density)
pins: 1, 2

## AS6C6416-55TIN
designator U?
SRAM Chip Async Single 3.3V 64M-Bit 4M X 16 55ns 48-Pin TSOP-I Tray; Manufacturer: Alliance Memory; Supplier 1: Mouser; Stock 1: 136; Pricing 1: 1 = 28.94000, 10 = 26.96000, 50 = 26.00000, 100 = 22.83000, 1000 = 21.47000, 10000 = 21.47000 (USD); Supplier Part Number 1: 913-AS6C6416-55TIN; Package: SOP50P2000X120-48N; Number of Pins: 48; ComponentLink1Description: Datasheet; ComponentLink1URL: https://www.alliancememory.com/wp-content/uploads/pdf/Alliance%20Memory_64M_AS6C6416-55TIN%20v1.0%20July%202017.pdf; Type: FINE-PITCH; Manufacturer Part Number: AS6C6416-55TIN
footprint TSSOP48 (TSSOP, 48-Leads, Body 12.00x18.40mm, Pitch 0.50mm, IPC Medium Density)
pins: 1 A15, 2 A14, 3 A13, 4 A12, 5 A11, 6 A10, 7 A9, 8 A8, 9 A19, 10 A20, 11 ~{WE}, 12 CE2, 13 A21, 14 ~{UB}, 15 ~{LB}, 16 A18, 17 A17, 18 A7, 19 A6, 20 A5, 21 A4, 22 A3, 23 A2, 24 A1, 25 A0, 26 CE1#, 27 VSS1, 28 ~{OE}, 29 DQ0, 30 DQ8, 31 DQ1, 32 DQ9, 33 DQ2, 34 DQ10, 35 DQ3, 36 DQ11, 37 VCC, 38 DQ4, 39 DQ12, 40 DQ5, 41 DQ13, 42 DQ6, 43 DQ14, 44 DQ7, 45 DQ15/A-1, 46 VSS2, 47 BYTE#, 48 A16
text: SRAM 64Mbit

## ATMEGA8L-8AU
designator U?
MCU ATMEGA8 TQFP32 8MHZ; Manufacturer: MICROCHIP; Controller Family/Series: ATmega; CPU Speed: 8; RAM Memory Size: 1; No. of Pins: 32; MCU Case Style: TQFP; No. of I/O's: 23; Embedded Interface Type: I2; Supply Voltage Min: 2.7; Supply Voltage Max: 5.5; Product Range: ATMega Microcontrollers; SVHC: No SVHC (15-Jun-2015); EEPROM Memory Size: 512; Memory Type: Flash EEPROM; Microprocessor/Controller Features: ISP, SPI, WDT; No. of External Interrupts: 2; No. of PWM Channels: 3; Number of bits in ADC: 10; Oscillator Type: External, Internal; Peripherals: ADC; Supply Voltage Range: 2.7V to 5.5V<!--FANDB--><div class="features-and-benefits-container"><div class="features-and-benefits-description"><span class="features-benefits-value">The ATMEGA8L-8AU is a 8-bit low-power CMOS Microcontroller Unit based on the AVR RISC architecture. By executing powerful instructions in a single clock cycle, the ATmega8 achieves throughputs approaching 1MIPS per MHz, allowing the system designed to optimize power consumption versus processing speed. The core combines a rich instruction set with 32 general purpose working registers. All the 32 registers are directly connected to the Arithmetic Logic Unit (ALU), allowing two independent registers to be accessed in one single instruction executed in one clock cycle. The resulting architecture is more code efficient while achieving throughputs up to ten times faster than conventional CISC microcontrollers.</span></div><div class="features-and-benefits-list"><ul class="features-and-benefits-list-list"><li class="features-and-benefits-list-item">Advanced RISC architecture</li><li class="features-and-benefits-list-item">130 Powerful instructions</li><li class="features-and-benefits-list-item">Fully static operation</li><li class="features-and-benefits-list-item">Up to 16MIPS throughput at 16MHz</li><li class="features-and-benefits-list-item">High endurance non-volatile memory segments</li><li class="features-and-benefits-list-item">True Read-While-Write operation</li><li class="features-and-benefits-list-item">Programming lock for software security</li><li class="features-and-benefits-list-item">Two 8; .PCBChecked: BP; Supplier 1: Farnell; Manufacturer Part Number: ATMEGA8L-8AU; RoHS: YES; Stock 1: 1256; Pricing 1: 1=3.08, 5=2.95, 10=2.75, 25=2.37, 100=2.08, 500=1.94, 2000=1.79, 3000=1.65 (GBP); Program Memory Size: 8; Packaging: Each; Automotive Qualification Standard: -; MSL: MSL 3 - 168 hours; Flash Memory Size: 8; Logic Function Number: 8; MPU Core Size: 8; No. of ADC Inputs: 8; No. of Bits: 8; No. of Timers: 3; Operating Temperature Max: 85; Operating Temperature Min: -40; Operating Temperature Range: -40°C to +85; ComponentLink1URL: http://www.farnell.com/datasheets/65559.pdf; ComponentLink1Description: Datasheet; Supplier Part Number 1: 9171525; Category: Integrated Circuits (ICs); Package: QFP80P900X900X120-32N; Type: SMD; .SCHChecked: BP
footprint TQFP32 (TQFP, 32-Leads, Body 7,00x7,00mm, Pitch 0,80mm, IPC Medium Density)
pins: 1 PD3 (INT1), 2 PD4 (XCK/T0), 3 GND, 4 VCC, 5 AGND, 6 VCC, 7 PB6 (XT1/TOSC1), 8 PB7 (XT2/TOSC2), 9 PD5 (T1), 10 PD6 (AIN0), 11 PD7 (AIN1), 12 PB0 (ICP), 13 (OC1A) PB1, 14 (SS/OC1B) PB2, 15 (OC2/MOSI) PB3, 16 (MISO) PB4, 17 (SCK) PB5, 18 AVCC, 19 NC, 20 AREF, 21 AGND, 22 NC, 23 (ADC0) PC0, 24 (ADC1) PC1, 25 (ADC2) PC2, 26 (ADC3) PC3, 27 (SDA/ADC4) PC4, 28 (SCL/ADC5) PC5, 29 PC6 (RESET#), 30 PD0 (RXD), 31 PD1 (TXD), 32 PD2 (INT0)

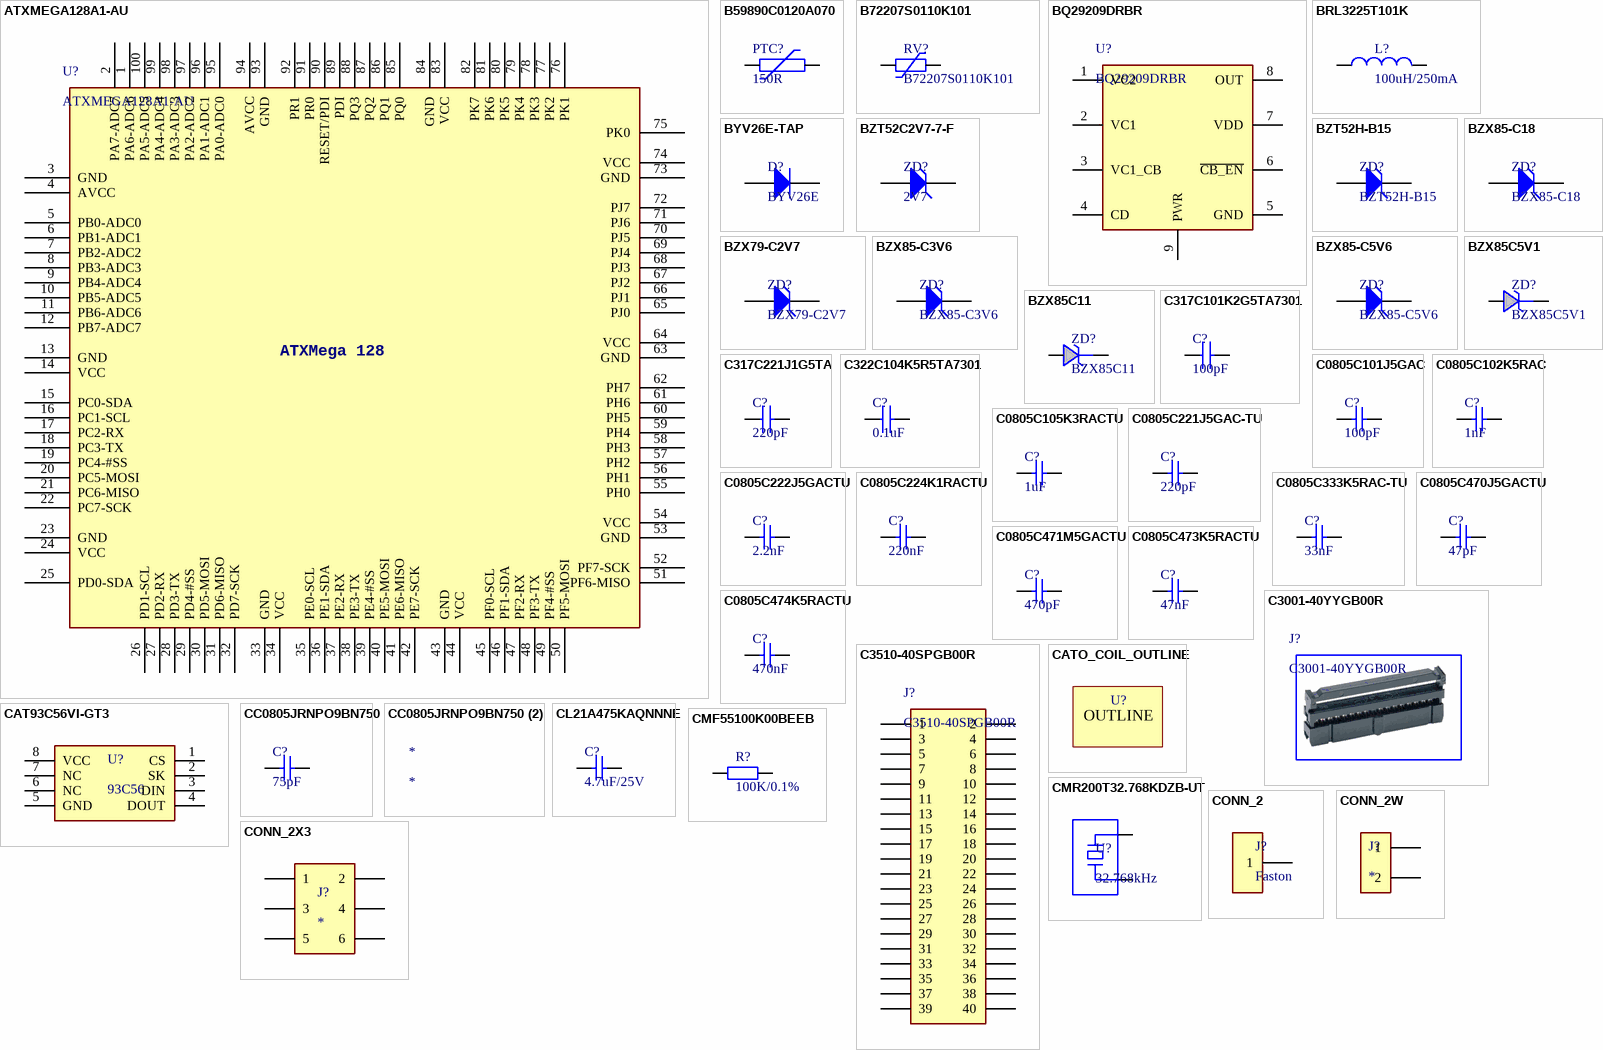
[diagram p2: symbols ATXMEGA128A1-AU to CONN_2X3]

## ATXMEGA128A1-AU
designator U?
MCU ATXMEGA128A1 TQFP100 32MHz; Manufacturer: Microchip / Atmel; Interface: I2C,SPI,IrDA,UART,USART,EBI/EMI; Data Bus Width: 8b; Core Architecture: AVR; Number of I/Os: 78; Oscillator Type: Internal; Memory Type: FLASH; Memory Size: 128KB; Peripherals: Brown-out Detect/Reset,POR,PWM,WDT,DMA; Min Supply Voltage: 1.6V; Max Supply Voltage: 3.6V; RAM Size: 8KB; Number of Timers/Counters: 8; Watchdog Timer: Yes; Number of SPI Channels: 4; Supplier 1: EBV Elektronik; Manufacturer Part Number: ATXMEGA128A1-AU; Stock 1: 1430; Pricing 1: 1=7.12, 25=6.5296, 100=5.9148 (USD); Mount: Surface Mount; Package: QFP50P1600X1600X120-100N; Number of Pins: 100; Contact Plating: Tin,Matte; Min Operating Temperature: -40°C; Max Operating Temperature: 85°C; Package Quantity: 90; Frequency: 32MHz; Packaging: Tray; Number of Programmable I/O: 78; Max Frequency: 32MHz; Number of ADC Channels: 8; Number of I2C Channels: 4; Length: 14.1mm; Height: 1.05mm; Width: 14.1mm; Radiation Hardening: No; REACH SVHC: No SVHC; Lead Free: Lead Free; ComponentLink1URL: https://datasheet.ciiva.com/14132/atxmega64-128-192-256-384-a1-eng-tds-14132462.pdf; ComponentLink1Description: Datasheet; Supplier Part Number 1: ATXMEGA128A1-AU; Type: FINE-PITCH
footprint TQFP100 (TSQFP, 100-Leads, Body 14.00x14.00mm, Pitch 0.50mm, IPC Medium Density)
pins: 1 PA6-ADC6, 2 PA7-ADC7, 3 GND, 4 AVCC, 5 PB0-ADC0, 6 PB1-ADC1, 7 PB2-ADC2, 8 PB3-ADC3, 9 PB4-ADC4, 10 PB5-ADC5, 11 PB6-ADC6, 12 PB7-ADC7, 13 GND, 14 VCC, 15 PC0-SDA, 16 PC1-SCL, 17 PC2-RX, 18 PC3-TX, 19 PC4-#SS, 20 PC5-MOSI, 21 PC6-MISO, 22 PC7-SCK, 23 GND, 24 VCC, 25 PD0-SDA, 26 PD1-SCL, 27 PD2-RX, 28 PD3-TX, 29 PD4-#SS, 30 PD5-MOSI, 31 PD6-MISO, 32 PD7-SCK, 33 GND, 34 VCC, 35 PE0-SCL, 36 PE1-SDA, 37 PE2-RX, 38 PE3-TX, 39 PE4-#SS, 40 PE5-MOSI, 41 PE6-MISO, 42 PE7-SCK, 43 GND, 44 VCC, 45 PF0-SCL, 46 PF1-SDA, 47 PF2-RX, 48 PF3-TX, 49 PF4-#SS, 50 PF5-MOSI, 51 PF6-MISO, 52 PF7-SCK, 53 GND, 54 VCC, 55 PH0, 56 PH1, 57 PH2, 58 PH3, 59 PH4, 60 PH5, 61 PH6, 62 PH7, 63 GND, 64 VCC, 65 PJ0, 66 PJ1, 67 PJ2, 68 PJ3, 69 PJ4, 70 PJ5, 71 PJ6, 72 PJ7, 73 GND, 74 VCC, 75 PK0, 76 PK1, 77 PK2, 78 PK3, 79 PK4, 80 PK5, 81 PK6, 82 PK7, 83 VCC, 84 GND, 85 PQ0, 86 PQ1, 87 PQ2, 88 PQ3, 89 PDI, 90 RESET/PDI, 91 PR0, 92 PR1, 93 GND, 94 AVCC, 95 PA0-ADC0, 96 PA1-ADC1, 97 PA2-ADC2, 98 PA3-ADC3, 99 PA4-ADC4, 100 PA5-ADC5
1 alternate drawing of the same symbol
text: ATXMega 128

## B59890C0120A070
designator PTC?, comment 150R
PTC THERMISTOR; Manufacturer: EPCOS; Manufacturer Part Number: B59890C0120A070; Supplier 1: Farnell; RoHS: YES; Stock 1: 1114; Pricing 1: 1=1.13, 100=0.813, 250=0.718, 500=0.614, 1000=0.556 (GBP); ComponentLink1URL: http://www.farnell.com/datasheets/2125239.pdf; ComponentLink1Description: Datasheet; Supplier Part Number 1: 9753338; Type: THT
pins: 1, 2

## B72207S0110K101
designator RV?
VARISTOR 11VAC S20K300 250A; Manufacturer: TDK EPCOS; Varistor Type: Metal Oxide Varistor (MOV); Varistor Case Style: Disc 7mm; Clamping Voltage Vc Max: 36V; Peak Energy (10/1000uS): 800mJ; Voltage Rating V DC: 14V; Voltage Rating V AC: 11V; SVHC: No SVHC (16-Jun-2014); Supplier 1: Mouser; Manufacturer Part Number: B72207S0110K101; Stock 1: 6090; Pricing 1: 1=0.53, 10=0.306, 50=0.306, 100=0.178, 1000=0.111, 10000=0.086 (USD); Series: B722; Peak Surge Current @ 8/20µs: 250A; Operating Temperature Min: -40°C; Operating Temperature Max: 85°C; ComponentLink1URL: https://datasheet.ciiva.com/15155/getdatasheetpartid-151373-15155595.pdf; ComponentLink1Description: Datasheet; Supplier Part Number 1: 871-B72207S110K101; Type: THT; Package: Radial
footprint S20K300
pins: 1, 2

## BQ29209DRBR
designator U?
IC VOLT PROT 2-CELL LI-ION 8SON; Manufacturer: Texas Instruments; Output Voltage: 4.3V; Min Supply Voltage: 4V; Max Supply Voltage: 10V; Output Current: 85uA; Operating Supply Current: 6uA; Number of Batteries: 2; Supplier 1: Mouser; Manufacturer Part Number: BQ29209DRBR; RoHS: Yes; Stock 1: 4816; Pricing 1: 1 = 0.87000, 10 = 0.74000, 50 = 0.74000, 100 = 0.56800, 1000 = 0.39600, 10000 = 0.33800 (USD); Number of Pins: 8; Contact Plating: Gold; Min Operating Temperature: -40°C; Max Operating Temperature: 110°C; Packaging: Tape and Reel; Package Quantity: 3000; Radiation Hardening: No; REACH SVHC: No SVHC; Lead Free: Lead Free; ComponentLink1URL: https://datasheet.ciiva.com/3213/bq29200-3213301.pdf?src-supplier=Avnet; ComponentLink1Description: Datasheet; Supplier Part Number 1: 595-BQ29209DRBR; Type: SMD; Package: DFN65P300X300X100-8N
footprint DFN8 (QFN, 8-Leads, Body 3.00x3.00mm, Pitch 0.65mm/0.50mm, Thermal Pad 2.40x1.65mm, IPC Medium Density)
pins: 1 VC2, 2 VC1, 3 VC1_CB, 4 CD, 5 GND, 6 ~{CB_EN}, 7 VDD, 8 OUT, 9 PWR

## BRL3225T101K
designator L?, comment 100uH/250mA
IND 100UH 1210 250mA; Manufacturer: Taiyo Yuden; Manufacturer Part Number: BRL3225T101K; Catalog Drawings: BRL3225 Series Side BRL3225 Series End; Featured Product: BRL3225 Series; EDA / CAD Models: Download from Accelerated Designs; Type: SMD; Inductance: 100µH; Tolerance: ±10%; Current - Saturation: 270mA; Shielding: Unshielded; DC Resistance (DCR): 3 Ohm Max; Frequency - Self Resonant: 5MHz; Frequency - Test: 100kHz; Online Catalog: BR Series; Other Names: 587-2170-6; Supplier 1: Mouser; Stock 1: 14059; Pricing 1: 1=0.25, 10=0.164, 50=0.164, 100=0.137, 1000=0.098, 10000=0.078 (USD); Standard Package: 1; Category: Inductors, Coils, Chokes; Family: Fixed Inductors; Series: BR; Packaging: Digi-Reel®; Current Rating: 250mA; Operating Temperature: -40°C ~ 105°C; Mounting Type: Surface Mount; Package: INDC3225X170N; Size / Dimension: 0.126" L x 0.098" W (3.20mm x 2.50mm); Height - Seated (Max): 0.067" (1.70mm); ComponentLink1URL: https://datasheet.ciiva.com/7291/brl3225t101k-ss-7291482.pdf; ComponentLink1Description: Datasheet; Supplier Part Number 1: 963-BRL3225T101K
footprint L1210
pins: 1, 2

## BYV26E-TAP
designator D?, comment BYV26E
DIODE 1KV SOD57 1A; Manufacturer: Vishay; Manufacturer Part Number: BYV26E-TAP; Diode Configuration: Single; Reverse Recovery Time trr Max: 75ns; No. of Pins: 2 Pin; Forward Voltage VF Max: 2.5V; Forward Surge Current Ifsm Max: 30A; SVHC: To Be Advised; Diode Type: Soft Recovery; Type: THT; Supplier 1: Digi-Key; Stock 1: 0; Pricing 1: 1=0.61, 10=0.535, 25=0.5028, 100=0.4104, 250=0.3812, 500=0.3245, 1000=0.2596, 2500=0.2352 (USD); Repetitive Reverse Voltage Vrrm Max: 1kV; Forward Current If(AV): 1A; Package: SOD-57; Operating Temperature Max: 175°C; Packaging: Each; Product Range: -; ComponentLink1URL: https://datasheet.ciiva.com/1178/1738922-1178338.pdf; ComponentLink1Description: Datasheet; Supplier Part Number 1: BYV26E-TAPCT-ND
footprint SOD57
pins: A, C

## BZT52C2V7-7-F
designator ZD?, comment 2V7
ZENER 2.7V SOD123 0.5W; Manufacturer: Diodes; Manufacturer Part Number: BZT52C2V7-7-F; Pd - Power Dissipation: 500 mW; Voltage Tolerance: 5 %; Voltage Temperature Coefficient: - 1.75 mV/C; Zener Current: 5 mA; Zz - Zener Impedance: 100 Ohms; Configuration: Single; Brand: Diodes Incorporated; Ir - Reverse Current: 20 uA; Unit Weight: 0.000353 oz; Power Dissipation Pd: 500mW; Diode Case Style: DO-35; Zener Tolerance ±: 5%; No. of Pins: 2Pins; Product Range: BZX79 Series; SVHC: No SVHC (17-Dec-2015); Supplier 1: Future Electronics; Stock 1: 18719; Pricing 1: 1=0.23, 10=0.208, 100=0.1134, 500=0.0698, 1000=0.0476 (USD); Product Category: Zener Diodes; RoHS: True; Vz - Zener Voltage: 2.7 V; Mounting Style: SMD/SMT; Package: SOD3716X135N; Maximum Operating Temperature: + 150 C; Packaging: Reel; Height: 1.35 mm; Length: 2.85 mm; Minimum Operating Temperature: - 65 C; Series: BZT52C2V; Factory Pack Quantity: 3000; Termination Style: SMD/SMT; Width: 1.7 mm; ComponentLink1URL: https://datasheet.ciiva.com/26943/getdatasheetpartid-72788-26943287.pdf; ComponentLink1Description: Datasheet; Supplier Part Number 1: BZT52C2V7-7-F; Supplier 2: Farnell; Stock 2: 1892; Pricing 2: 10=0.0393, 50=0.0356, 100=0.029, 1000=0.0194, 5000=0.019, 8000=0.0148, 30000=0.0132, 80000=0.0113 (EUR); Zener Voltage Vz Typ: 2.7V; Operating Temperature Max: 200°C; Supplier Part Number 2: 1097224; Type: SMD
footprint SOD123 (SODFL, 2-Leads, Body 1,50x5,20mm, IPC Medium Density)
pins: A, C

## BZT52H-B15
designator ZD?
ZENER 15V SOD123F 375 mW; Manufacturer: NXP Semiconductors; Max Power Dissipation: 375mW; Supplier 1: Farnell; Manufacturer Part Number: BZT52H-B15; Stock 1: 0; Number of Pins: 2; Max Operating Temperature: 150°C; Zener Voltage: 15V; Packaging: Cut Tape; REACH SVHC: No SVHC; ComponentLink1URL: http://www.farnell.com/datasheets/954062.pdf; ComponentLink1Description: Datasheet; Supplier Part Number 1: 2069420; Type: SMD; Package: SOD3719X115N
footprint SOD123F
pins: A, C

## BZX79-C2V7
designator ZD?
ZENER 2V7 SOD27 0.5W; Manufacturer: NXP Semiconductors; Zener Voltage Vz Typ: 2.7V; Power Dissipation Pd: 500mW; Zener Tolerance ±: 5%; No. of Pins: 2Pins; Product Range: BZX79 Series; SVHC: No SVHC (17-Dec-2015); Supplier 1: Farnell; Manufacturer Part Number: BZX79-C2V7; Stock 1: 1892; Pricing 1: 10=0.0393, 50=0.0356, 100=0.029, 1000=0.0194, 5000=0.019, 8000=0.0148, 30000=0.0132, 80000=0.0113 (EUR); Package: DO-35; Operating Temperature Max: 200°C; Packaging: Each; ComponentLink1URL: http://www.farnell.com/datasheets/703901.pdf; ComponentLink1Description: Datasheet; Supplier Part Number 1: 1097224; Type: THT
footprint SOD27
pins: A, C

## BZX85-C3V6
designator ZD?
ZENER 3.6V SOD123 1.3W; Manufacturer: NEXPERIA; .PCBChecked: BP; Manufacturer Part Number: BZX85-C3V6; RoHS: YES; ComponentLink1URL: http://www.farnell.com/datasheets/2246285.pdf; ComponentLink1Description: Datasheet; Category: Diodes; Package: SOD3716X135N; Type: SMD; .SCHChecked: BP; Supplier 1: Farnell; Supplier Part Number 1: 1907624
footprint SOD123 (SODFL, 2-Leads, Body 1,50x5,20mm, IPC Medium Density)
pins: A, C